# Altium footprint library Ферритовое кольцо.PcbLib: 1 footprints
Each footprint in its own frame and in the unit in brackets; x right, y up, seen from the top. Pads: shape width x height; smd on the part's side, far side on the other; paste and mask are expansions set on the pad; w line width, h text height; cw(c..) or ccw(c..) is an arc to the next point about the centre after c.
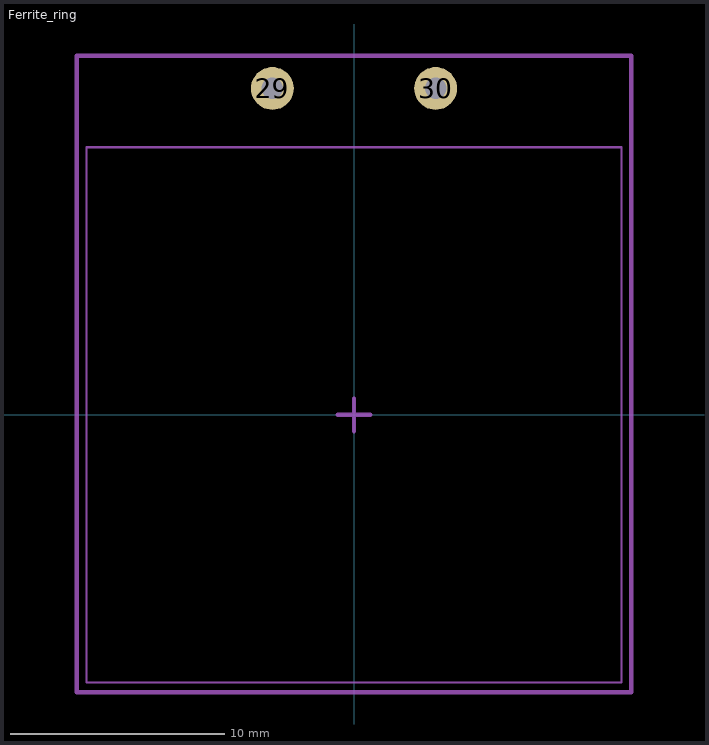
[diagram p0: the footprint, top view; thin cyan lines are the x and y axes]

## Ferrite_ring [mm]
pads (2):
  round 2 hole 1: 29(-3.81,15.24) 30(3.81,15.24)
Top Assy:
  lines w0.1: -12.5,-12.497 12.5,-12.497 12.5,12.497 -12.5,12.497 -12.5,-12.497
Border:
  lines w0.2: -0.762,0 0.762,0 ; 0,-0.762 0,0.762 ; -12.954,-12.954 12.954,-12.954 12.954,16.764 -12.954,16.764 -12.954,-12.954
3D body "Ферритовое кольцо.step": height 10, standoff 0, extent -12.5,-12.497 12.5,12.497